# Altium integrated library Optical.IntLib: 4 symbols
Pins are listed as number, name and electrical type; pins without a type are passive.

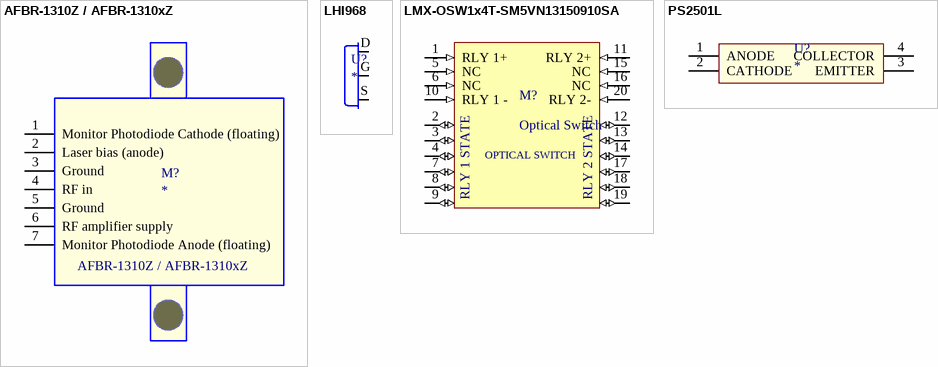
[diagram p0: symbols AFBR-1310Z / AFBR-1310xZ to PS2501L]

## AFBR-1310Z / AFBR-1310xZ
designator M?
footprint AFBR-1310Z / AFBR-1310xZ
pins: 1 Monitor Photodiode Cathode (floating) , 2 Laser bias (anode), 3 Ground , 4 RF in , 5 Ground, 6 RF amplifier supply, 7 Monitor Photodiode Anode (floating)

## LHI968
designator U?
IR DETECTOR, HIGH END PYRO, 5MM, TO-5, THRU HOLE, 12V, TO-5; Manufacturer: Excelitas; Manufacturer Part Number: LHI968; Min Supply Voltage: 2V; Max Supply Voltage: 10V; Number of Elements: 2; Viewing Angle: 100°; Supplier 1: Digi-Key; Supplier Part Number 1: LHI 968-ND; Stock: 0; Mount: Through Hole; Case/Package: TO-5; Number of Pins: 3; Min Operating Temperature: -40°C; Max Operating Temperature: 85°C; REACH SVHC: Unknown; ComponentLink1URL: https://datasheet.ciiva.com/1300/dts-lhi968-pyd1398-1300034.pdf; ComponentLink1Description: https://datasheet.ciiva.com/1300/dts-lhi968-pyd1398-1300034.pdf; ComponentLink2URL: https://datasheet.ciiva.com/14091/av631546-e-14091212.pdf; ComponentLink2Description: https://datasheet.ciiva.com/14091/av631546-e-14091212.pdf; ComponentLink3URL: https://datasheet.ciiva.com/1314/dts-lhi968-pyd1398-1314628.pdf; ComponentLink3Description: https://datasheet.ciiva.com/1314/dts-lhi968-pyd1398-1314628.pdf; ComponentLink4URL: https://datasheet.ciiva.com/1295/dts-lhi968-pyd1398-1295143.pdf; ComponentLink4Description: https://datasheet.ciiva.com/1295/dts-lhi968-pyd1398-1295143.pdf; ComponentLink5URL: https://datasheet.ciiva.com/22628/1272111-22628188.pdf; ComponentLink5Description: https://datasheet.ciiva.com/22628/1272111-22628188.pdf
footprint TO5
pins: D 1, G 2, S 3

## LMX-OSW1x4T-SM5VN13150910SA
designator M?, comment Optical Switch
footprint LMX-OSW1x4T-SM5VN13150910SA
pins: 1 RLY 1+ (in), 2 (io), 3 (io), 4 (io), 5 NC (in), 6 NC (in), 7 (io), 8 (io), 9 (io), 10 RLY 1 - (in), 11 RLY 2+ (in), 12 (io), 13 (io), 14 (io), 15 NC (in), 16 NC (in), 17 (io), 18 (io), 19 (io), 20 RLY 2- (in)
text: OPTICAL SWITCH; RLY 1 STATE; RLY 2 STATE

## PS2501L
designator U?
footprint SOP254P960X380
pins: 1 ANODE, 2 CATHODE, 3 EMITTER, 4 COLLECTOR